# EAGLE library part CAPSENSE-8 (library T-Stick)
Capsense CY8C20180 for the Sopranino T-Sticks
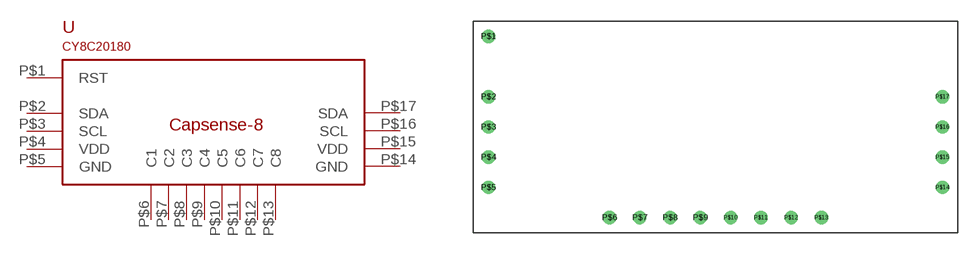
[diagram p2: symbol with the pads of CAPSENSE-8; footprint CAPSENSE-8]

Designator prefix -

## CAPSENSE-8  [CAPSENSE-8]
P$1  RST
P$2  SDA
P$3  SCL
P$4  VDD
P$5  GND
P$6  C1
P$7  C2
P$8  C3
P$9  C4
P$10  C5
P$11  C6
P$12  C7
P$13  C8
P$14  GND
P$15  VDD
P$16  SCL
P$17  SDA

## Footprint CAPSENSE-8 (pad centres in mm)
Handmade board to hold the Capsense CY8C20180
drill 0.6: P$1 0,5.08; P$2 0,0; P$3 0,-2.54; P$4 0,-5.08; P$5 0,-7.62; P$6 10.16,-10.16; P$7 12.7,-10.16; P$8 15.24,-10.16; P$9 17.78,-10.16; P$10 20.32,-10.16; P$11 22.86,-10.16; P$12 25.4,-10.16; P$13 27.94,-10.16; P$14 38.1,-7.62; P$15 38.1,-5.08; P$16 38.1,-2.54; P$17 38.1,0